# Altium footprint library FootprintLib.PcbLib: 194 footprints (part 8 of 13)
Each footprint in its own frame and in the unit in brackets; x right, y up, seen from the top. Pads: shape width x height; smd on the part's side, far side on the other; paste and mask are expansions set on the pad; w line width, h text height; cw(c..) or ccw(c..) is an arc to the next point about the centre after c.
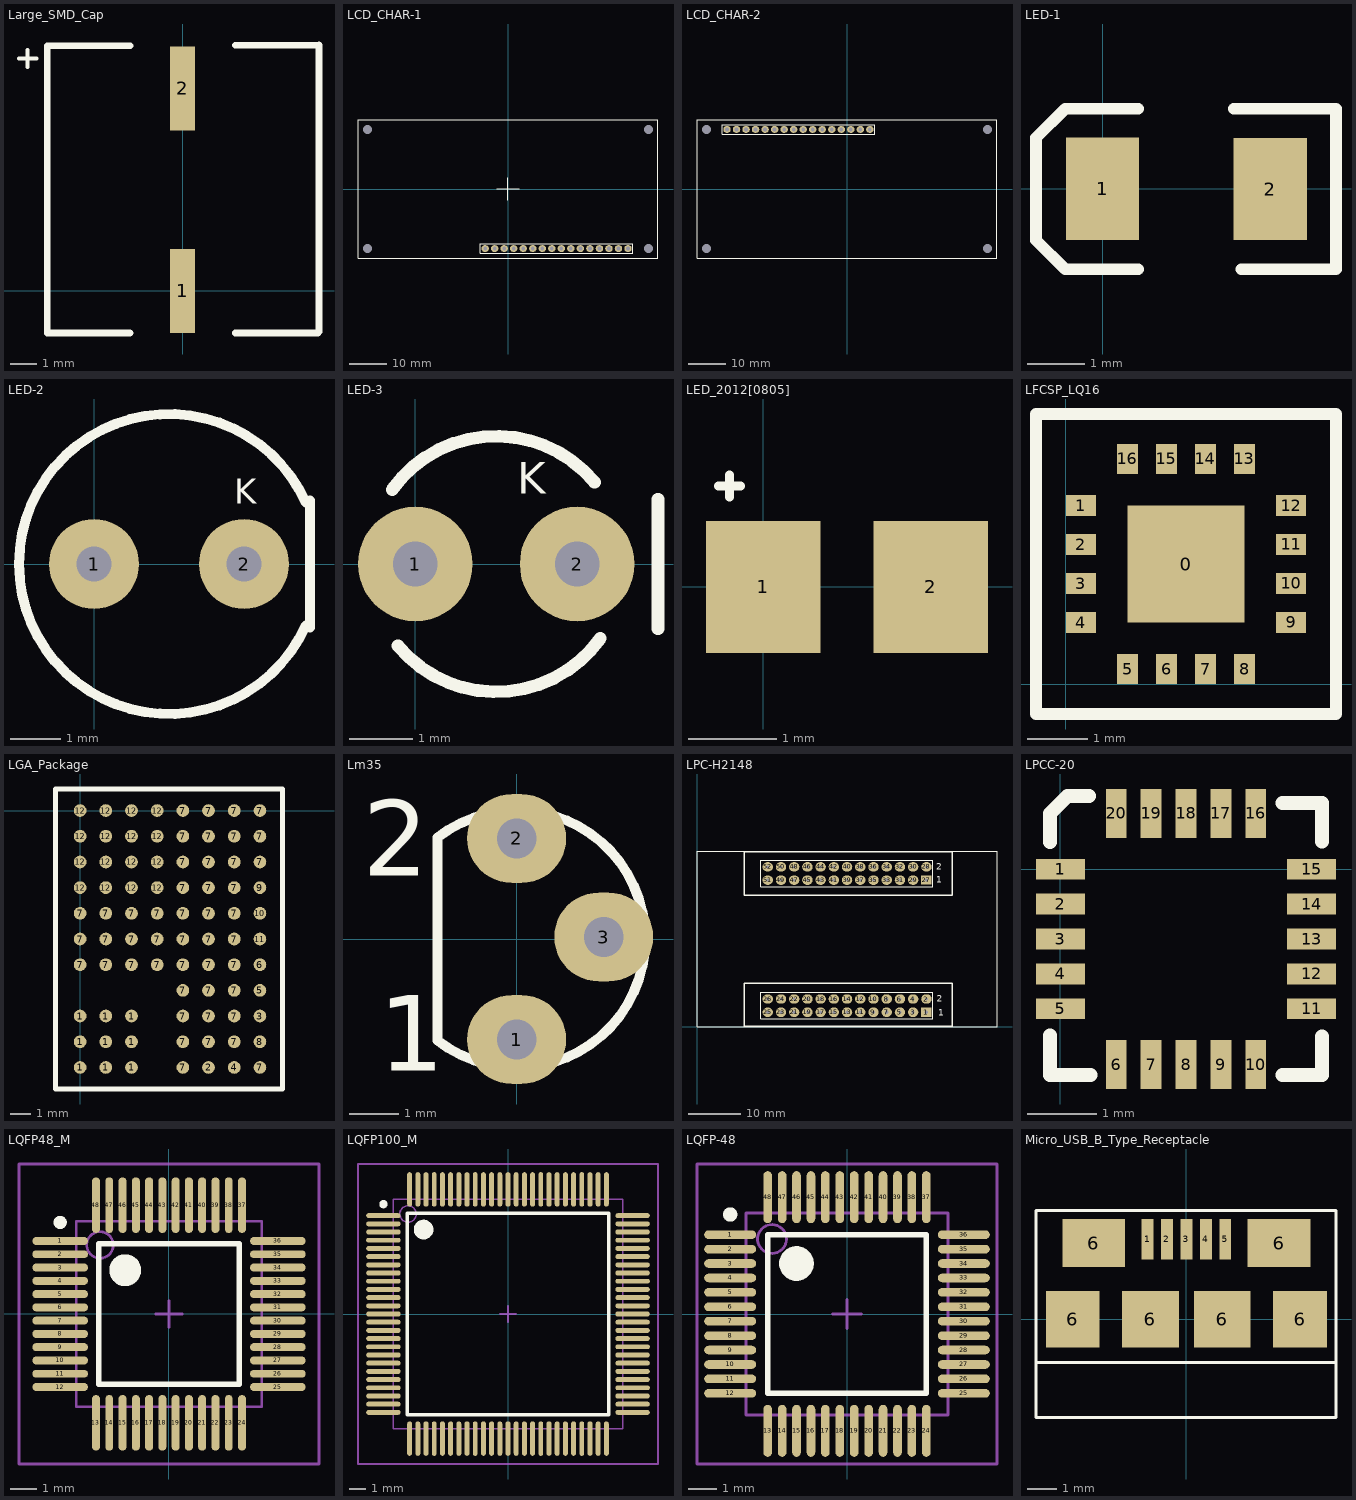
[diagram p7: the footprints below, top view; thin cyan lines are the x and y axes]

## Large_SMD_Cap [mm]
pads (2):
  rect 0.95x3.2 smd: 1(0,0) 2(0,7.7)
Top Overlay:
  lines w0.15: -6.223,8.839 -5.563,8.839 ; -5.893,8.509 -5.893,9.169
  lines w0.254: -5.15,9.3 -5.15,-1.6 -2,-1.6 ; -5.15,9.322 -2,9.322 ; 2,-1.6 5.15,-1.6 ; 2,9.347 5.15,9.347 ; 5.188,-1.549 5.188,9.351

## LCD_CHAR-1 [mm]
pads (20):
  oval 2x1.8 hole 1: 1(32.004,-15.875) 2(29.464,-15.875) 3(26.924,-15.875) 4(24.384,-15.875) 5(21.844,-15.875) 6(19.304,-15.875) 7(16.764,-15.875) 8(14.224,-15.875) 9(11.684,-15.875) 10(9.144,-15.875) 11(6.604,-15.875) 12(4.064,-15.875) 13(1.524,-15.875) 14(-1.016,-15.875) 15(-3.556,-15.875) 16(-6.096,-15.875)
  oval 2x1.8 hole 2.5: 22(-37.465,-15.875) 22(-37.465,15.875) 22(37.465,-15.875) 22(37.465,15.875)
Top Overlay:
  lines w0.2: -7.366,-17.145 33.274,-17.145 33.274,-14.605 -7.366,-14.605 -7.366,-17.145
  lines w0.254: -40.005,-18.415 -40.005,18.415 40.005,18.415 40.005,-18.415 -40.005,-18.415
  lines w0.3: -3.015,0.015 2.985,0.015 ; -0.015,-2.985 -0.015,3.015

## LCD_CHAR-2 [mm]
pads (20):
  oval 2x1.8 hole 1: 1(-32.004,15.875) 2(-29.464,15.875) 3(-26.924,15.875) 4(-24.384,15.875) 5(-21.844,15.875) 6(-19.304,15.875) 7(-16.764,15.875) 8(-14.224,15.875) 9(-11.684,15.875) 10(-9.144,15.875) 11(-6.604,15.875) 12(-4.064,15.875) 13(-1.524,15.875) 14(1.016,15.875) 15(3.556,15.875) 16(6.096,15.875)
  oval 2x1.8 hole 2.5: 22(-37.465,-15.875) 22(-37.465,15.875) 22(37.465,-15.875) 22(37.465,15.875)
Top Overlay:
  lines w0.2: -33.274,14.605 -33.274,17.145 7.366,17.145 7.366,14.605 -33.274,14.605
  lines w0.254: -40.005,-18.415 40.005,-18.415 40.005,18.415 -40.005,18.415 -40.005,-18.415

## LED-1 [mm]
pads (2):
  rect 1.27x1.778 smd: 1(0,0) 2(2.915,-0.005)
Top Overlay:
  lines w0.2: 0.62,-1.402 -0.65,-1.402 -1.158,-0.894 -1.158,0.884 -0.65,1.392 0.62,1.392 ; 2.28,1.392 4.058,1.392 4.058,-1.402 2.407,-1.402

## LED-2 [mm]
pads (2):
  round 1.8 hole 0.7: 1(0,0) 2(3,0)
Top Overlay:
  lines w0.2: 4.235,-1.233 cw(c1.5,0) 4.235,1.233 ; 4.318,-1.27 4.318,1.27
  text "K" at 2.8,1.2 h0.5

## LED-3 [mm] "LED in 3mm diamiter"
pads (2):
  round 1.8 hole 0.7: 1(0,0) 2(2.54,0)
Top Overlay:
  lines w0.2: -0.364,1.167 cw(c1.27,0) 2.813,1.286 ; -0.273,-1.286 ccw(c1.27,0) 2.904,-1.167 ; 3.81,-1.016 3.81,1.016
  text "K" at 1.6,1.1 h0.5

## LED_2012[0805] [mm]
pads (2):
  rect 1.3x1.5 smd: 1(0,0) 2(1.9,0)
Top Overlay:
  lines w0.1: -0.508,1.143 -0.254,1.143 ; -0.381,1.016 -0.381,1.27

## LFCSP_LQ16 [mm]
height 1.5
pads (17):
  rect 1.95x1.95 smd: 0(2,2)
  rect 0.5x0.35 smd: 1(0.25,2.975) 2(0.25,2.325) 3(0.25,1.675) 4(0.25,1.025) 9(3.75,1.025) 10(3.75,1.675) 11(3.75,2.325) 12(3.75,2.975)
  rect 0.35x0.5 smd: 5(1.025,0.25) 6(1.675,0.25) 7(2.325,0.25) 8(2.975,0.25) 13(2.975,3.75) 14(2.325,3.75) 15(1.675,3.75) 16(1.025,3.75)
Top Overlay:
  lines w0.2: -0.5,-0.5 -0.5,4.5 4.5,4.5 4.5,-0.5 -0.5,-0.5

## LGA_Package [mm]
pads (81):
  round 0.63 smd: 1(0,-12.7) 1(0,-11.43) 1(0,-10.16) 1(1.27,-12.7) 1(1.27,-11.43) 1(1.27,-10.16) 1(2.54,-12.7) 1(2.54,-11.43) 1(2.54,-10.16) 2(6.35,-12.7) 3(8.89,-10.16) 4(7.62,-12.7) 5(8.89,-8.89) 6(8.89,-7.62) 7(0,-7.62) 7(0,-6.35) 7(0,-5.08) 7(1.27,-7.62) 7(1.27,-6.35) 7(1.27,-5.08) 7(2.54,-7.62) 7(2.54,-6.35) 7(2.54,-5.08) 7(3.81,-7.62) 7(3.81,-6.35) 7(3.81,-5.08) 7(5.08,-12.7) 7(5.08,-11.43) 7(5.08,-10.16) 7(5.08,-8.89) 7(5.08,-7.62) 7(5.08,-6.35) 7(5.08,-5.08) 7(5.08,-3.81) 7(5.08,-2.54) 7(5.08,-1.27) 7(5.08,0) 7(6.35,-11.43) 7(6.35,-10.16) 7(6.35,-8.89) 7(6.35,-7.62) 7(6.35,-6.35) 7(6.35,-5.08) 7(6.35,-3.81) 7(6.35,-2.54) 7(6.35,-1.27) 7(6.35,0) 7(7.62,-11.43) 7(7.62,-10.16) 7(7.62,-8.89) 7(7.62,-7.62) 7(7.62,-6.35) 7(7.62,-5.08) 7(7.62,-3.81) 7(7.62,-2.54) 7(7.62,-1.27) 7(7.62,0) 7(8.89,-12.7) 7(8.89,-2.54) 7(8.89,-1.27) 7(8.89,0) 8(8.89,-11.43) 9(8.89,-3.81) 10(8.89,-5.08) 11(8.89,-6.35) 12(0,-3.81) 12(0,-2.54) 12(0,-1.27) 12(0,0) 12(1.27,-3.81) 12(1.27,-2.54) 12(1.27,-1.27) 12(1.27,0) 12(2.54,-3.81) 12(2.54,-2.54) 12(2.54,-1.27) 12(2.54,0) 12(3.81,-3.81) 12(3.81,-2.54) 12(3.81,-1.27) 12(3.81,0)
Top Overlay:
  lines w0.254: -1.219,-13.767 10.008,-13.767 10.008,1.067 -1.219,1.067 -1.219,-13.767

## Lm35 [mm]
pads (3):
  oval 2x1.8 hole 0.8: 1(0,-2.032) 2(0,2.032) 3(1.76,0.04)
Top Overlay:
  lines w0.2: -1.601,-2.049 ccw(c0,0) -1.601,2.049 ; -1.6,-1.99 -1.6,1.99
  text "1" at -2.79,-2.66 h1.52
  text "2" at -3.11,1.28 h1.52

## LPC-H2148 [mm]
height 20
pads (52):
  rect 2x1.8 hole 0.6: 1(44.069,2.819) 27(44.069,28.219)
  oval 2x1.8 hole 0.6: 2(44.099,5.359) 3(41.539,2.809) 4(41.539,5.349) 5(38.999,2.809) 6(38.999,5.349) 7(36.459,2.809) 8(36.459,5.349) 9(33.919,2.809) 10(33.919,5.349) 11(31.379,2.809) 12(31.379,5.349) 13(28.839,2.809) 14(28.839,5.349) 15(26.299,2.809) 16(26.299,5.349) 17(23.759,2.809) 18(23.759,5.349) 19(21.219,2.809) 20(21.219,5.349) 21(18.679,2.809) 22(18.679,5.349) 23(16.139,2.809) 24(16.139,5.349) 25(13.599,2.809) 26(13.599,5.349) 28(44.099,30.759) 29(41.539,28.209) 30(41.539,30.749) 31(38.999,28.209) 32(38.999,30.749) 33(36.459,28.209) 34(36.459,30.749) 35(33.919,28.209) 36(33.919,30.749) 37(31.379,28.209) 38(31.379,30.749) 39(28.839,28.209) 40(28.839,30.749) 41(26.299,28.209) 42(26.299,30.749) 43(23.759,28.209) 44(23.759,30.749) 45(21.219,28.209) 46(21.219,30.749) 47(18.679,28.209) 48(18.679,30.749) 49(16.139,28.209) 50(16.139,30.749) 51(13.599,28.209) 52(13.599,30.749)
Top Overlay:
  lines w0.1: 0,0 0,33.782 57.658,33.782 57.658,0 0,0
  lines w0.2: 12.294,1.539 45.349,1.539 45.349,6.619 12.294,6.619 12.294,1.539 ; 12.294,26.939 12.294,32.019 45.349,32.019 45.349,26.939 12.294,26.939
  lines w0.254: 9.093,0.102 9.093,8.357 49.022,8.357 49.022,0.102 9.093,0.102 ; 9.093,25.273 49.022,25.273 49.022,33.655 9.093,33.655 9.093,25.273
  text "1" at 46.38,2.159 h1.27
  text "2" at 46.076,4.801 h1.27
  text "2" at 45.964,30.241 h1.27
  text "1" at 45.964,27.701 h1.27

## LPCC-20 [mm]
pads (20):
  rect 0.7x0.3 smd: 1(0,0) 2(0,-0.5) 3(0,-1) 4(0,-1.5) 5(0,-2) 11(3.6,-2) 12(3.6,-1.5) 13(3.6,-1) 14(3.6,-0.5) 15(3.6,0)
  rect 0.3x0.7 smd: 6(0.8,-2.8) 7(1.3,-2.8) 8(1.8,-2.8) 9(2.3,-2.8) 10(2.8,-2.8) 16(2.8,0.8) 17(2.3,0.8) 18(1.8,0.8) 19(1.3,0.8) 20(0.8,0.8)
Top Overlay:
  lines w0.2: -0.15,-2.38 -0.15,-2.95 0.43,-2.95 ; -0.15,0.39 -0.15,0.8 0.1,1.05 0.41,1.05 ; 3.18,-2.95 3.75,-2.95 3.75,-2.4 ; 3.18,0.95 3.75,0.95 3.75,0.4

## LQFP48_M [mm]
height 1.6
pads (48):
  oval 2.1x0.3 smd: 1(-4.1,2.75) 2(-4.1,2.25) 3(-4.1,1.75) 4(-4.1,1.25) 5(-4.1,0.75) 6(-4.1,0.25) 7(-4.1,-0.25) 8(-4.1,-0.75) 9(-4.1,-1.25) 10(-4.1,-1.75) 11(-4.1,-2.25) 12(-4.1,-2.75) 25(4.1,-2.75) 26(4.1,-2.25) 27(4.1,-1.75) 28(4.1,-1.25) 29(4.1,-0.75) 30(4.1,-0.25) 31(4.1,0.25) 32(4.1,0.75) 33(4.1,1.25) 34(4.1,1.75) 35(4.1,2.25) 36(4.1,2.75)
  oval 0.3x2.1 smd: 13(-2.75,-4.1) 14(-2.25,-4.1) 15(-1.75,-4.1) 16(-1.25,-4.1) 17(-0.75,-4.1) 18(-0.25,-4.1) 19(0.25,-4.1) 20(0.75,-4.1) 21(1.25,-4.1) 22(1.75,-4.1) 23(2.25,-4.1) 24(2.75,-4.1) 37(2.75,4.1) 38(2.25,4.1) 39(1.75,4.1) 40(1.25,4.1) 41(0.75,4.1) 42(0.25,4.1) 43(-0.25,4.1) 44(-0.75,4.1) 45(-1.25,4.1) 46(-1.75,4.1) 47(-2.25,4.1) 48(-2.75,4.1)
Top Overlay:
  circle w0.6: c-1.65,1.65 r0.3
  circle w0.25: c-4.1,3.45 r0.125
  lines w0.2: -2.65,-2.65 2.65,-2.65 2.65,2.65 -2.65,2.65 -2.65,-2.65
Mechanical 13:
  circle w0.1: c-2.6,2.6 r0.5
  lines w0.1: -3.5,-3.5 3.5,-3.5 3.5,3.5 -3.5,3.5 -3.5,-3.5
Mechanical 15:
  lines w0.1: -0.5,0 0.5,0 ; 0,-0.5 0,0.5 ; -5.65,-5.65 5.65,-5.65 5.65,5.65 -5.65,5.65 -5.65,-5.65
3D body: height 1.6, standoff 0, extent -3.5,-3.5 3.5,3.5

## LQFP100_M [mm] "Thin QFP, 100-Leads, Body 14x14mm, Pitch 0.5mm, IPC Low Density"
height 1.6
pads (100):
  oval 2.1x0.3 smd: 1(-7.6,6) 2(-7.6,5.5) 3(-7.6,5) 4(-7.6,4.5) 5(-7.6,4) 6(-7.6,3.5) 7(-7.6,3) 8(-7.6,2.5) 9(-7.6,2) 10(-7.6,1.5) 11(-7.6,1) 12(-7.6,0.5) 13(-7.6,0) 14(-7.6,-0.5) 15(-7.6,-1) 16(-7.6,-1.5) 17(-7.6,-2) 18(-7.6,-2.5) 19(-7.6,-3) 20(-7.6,-3.5) 21(-7.6,-4) 22(-7.6,-4.5) 23(-7.6,-5) 24(-7.6,-5.5) 25(-7.6,-6) 51(7.6,-6) 52(7.6,-5.5) 53(7.6,-5) 54(7.6,-4.5) 55(7.6,-4) 56(7.6,-3.5) 57(7.6,-3) 58(7.6,-2.5) 59(7.6,-2) 60(7.6,-1.5) 61(7.6,-1) 62(7.6,-0.5) 63(7.6,0) 64(7.6,0.5) 65(7.6,1) 66(7.6,1.5) 67(7.6,2) 68(7.6,2.5) 69(7.6,3) 70(7.6,3.5) 71(7.6,4) 72(7.6,4.5) 73(7.6,5) 74(7.6,5.5) 75(7.6,6)
  oval 0.3x2.1 smd: 26(-6,-7.6) 27(-5.5,-7.6) 28(-5,-7.6) 29(-4.5,-7.6) 30(-4,-7.6) 31(-3.5,-7.6) 32(-3,-7.6) 33(-2.5,-7.6) 34(-2,-7.6) 35(-1.5,-7.6) 36(-1,-7.6) 37(-0.5,-7.6) 38(0,-7.6) 39(0.5,-7.6) 40(1,-7.6) 41(1.5,-7.6) 42(2,-7.6) 43(2.5,-7.6) 44(3,-7.6) 45(3.5,-7.6) 46(4,-7.6) 47(4.5,-7.6) 48(5,-7.6) 49(5.5,-7.6) 50(6,-7.6) 76(6,7.6) 77(5.5,7.6) 78(5,7.6) 79(4.5,7.6) 80(4,7.6) 81(3.5,7.6) 82(3,7.6) 83(2.5,7.6) 84(2,7.6) 85(1.5,7.6) 86(1,7.6) 87(0.5,7.6) 88(0,7.6) 89(-0.5,7.6) 90(-1,7.6) 91(-1.5,7.6) 92(-2,7.6) 93(-2.5,7.6) 94(-3,7.6) 95(-3.5,7.6) 96(-4,7.6) 97(-4.5,7.6) 98(-5,7.6) 99(-5.5,7.6) 100(-6,7.6)
Top Overlay:
  circle w0.6: c-5.15,5.15 r0.3
  circle w0.25: c-7.6,6.7 r0.125
  lines w0.2: -6.15,-6.15 6.15,-6.15 6.15,6.15 -6.15,6.15 -6.15,-6.15
Mechanical 13:
  circle w0.1: c-6.1,6.1 r0.5
  lines w0.1: -7,-7 7,-7 7,7 -7,7 -7,-7
Mechanical 15:
  lines w0.1: -0.5,0 0.5,0 ; 0,-0.5 0,0.5 ; -9.15,-9.15 9.15,-9.15 9.15,9.15 -9.15,9.15 -9.15,-9.15
3D body: height 1.6, standoff 0, extent -7,-7 7,7

## LQFP-48 [mm] "48-Pin LQFP 0.5 mm Pitch"
height 1.6
pads (48):
  oval 1.8x0.3 smd: 1(-4.05,2.75) 2(-4.05,2.25) 3(-4.05,1.75) 4(-4.05,1.25) 5(-4.05,0.75) 6(-4.05,0.25) 7(-4.05,-0.25) 8(-4.05,-0.75) 9(-4.05,-1.25) 10(-4.05,-1.75) 11(-4.05,-2.25) 12(-4.05,-2.75) 25(4.05,-2.75) 26(4.05,-2.25) 27(4.05,-1.75) 28(4.05,-1.25) 29(4.05,-0.75) 30(4.05,-0.25) 31(4.05,0.25) 32(4.05,0.75) 33(4.05,1.25) 34(4.05,1.75) 35(4.05,2.25) 36(4.05,2.75)
  oval 0.3x1.8 smd: 13(-2.75,-4.05) 14(-2.25,-4.05) 15(-1.75,-4.05) 16(-1.25,-4.05) 17(-0.75,-4.05) 18(-0.25,-4.05) 19(0.25,-4.05) 20(0.75,-4.05) 21(1.25,-4.05) 22(1.75,-4.05) 23(2.25,-4.05) 24(2.75,-4.05) 37(2.75,4.05) 38(2.25,4.05) 39(1.75,4.05) 40(1.25,4.05) 41(0.75,4.05) 42(0.25,4.05) 43(-0.25,4.05) 44(-0.75,4.05) 45(-1.25,4.05) 46(-1.75,4.05) 47(-2.25,4.05) 48(-2.75,4.05)
Top Overlay:
  circle w0.25: c-4.05,3.45 r0.125
  circle w0.6: c-1.75,1.75 r0.3
  lines w0.2: -2.75,-2.75 -2.75,2.75 2.75,2.75 2.75,-2.75 -2.75,-2.75
Mechanical 13:
  circle w0.1: c-2.6,2.6 r0.5
  lines w0.1: -3.5,-3.5 -3.5,3.5 3.5,3.5 3.5,-3.5 -3.5,-3.5
Mechanical 15:
  lines w0.1: -0.5,0 0.5,0 ; 0,-0.5 0,0.5 ; -5.2,-5.2 -5.2,5.2 5.2,5.2 5.2,-5.2 -5.2,-5.2
3D body: height 1.6, standoff 0, extent -3.5,-3.5 3.5,3.5

## Micro_USB_B_Type_Receptacle [mm]
pads (11):
  rect 0.4x1.35 smd: 1(-1.3,2.675) 2(-0.65,2.675) 3(0,2.675) 4(0.65,2.675) 5(1.3,2.675)
  rect 1.8x1.9 smd: 6(-3.8,0) 6(3.8,0)
  rect 2.1x1.6 smd: 6(-3.1,2.55) 6(3.1,2.55)
  rect 1.9x1.9 smd: 6(-1.2,0) 6(1.2,0)
Top Overlay:
  lines w0.1: -5.029,-1.45 -5.029,3.632 5.004,3.632 5.004,-1.45 ; -5.029,-3.277 5.004,-3.277 5.004,-1.448 -5.029,-1.448 -5.029,-3.277